# Altium schematic symbol library MIFI.SchLib: 6 symbols
Pins are listed as number, name and electrical type; pins without a type are passive.

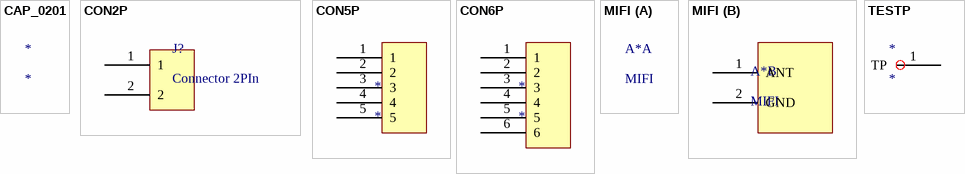
[diagram p0: symbols CAP_0201 to TESTP]

## CAP_0201
designator *

## CON2P
designator J?, comment Connector 2PIn
footprint CON_2P
pins: 1, 2

## CON5P
designator *
pins: 1, 2, 3, 4, 5

## CON6P
designator *
footprint CON6P (Footprint not found)
pins: 1, 2, 3, 4, 5, 6

## MIFI
designator A*  (net tie, no BOM)
footprint MIFI (Footprint not found)
footprint IFA_MAGUS
part B pins: 1 ANT, 2 GND

## TESTP
designator *
pins: 1 TP